# Altium footprint library inductors.PcbLib: 86 footprints (part 6 of 6)
Each footprint in its own frame and in the unit in brackets; x right, y up, seen from the top. Pads: shape width x height; smd on the part's side, far side on the other; paste and mask are expansions set on the pad; w line width, h text height; cw(c..) or ccw(c..) is an arc to the next point about the centre after c.
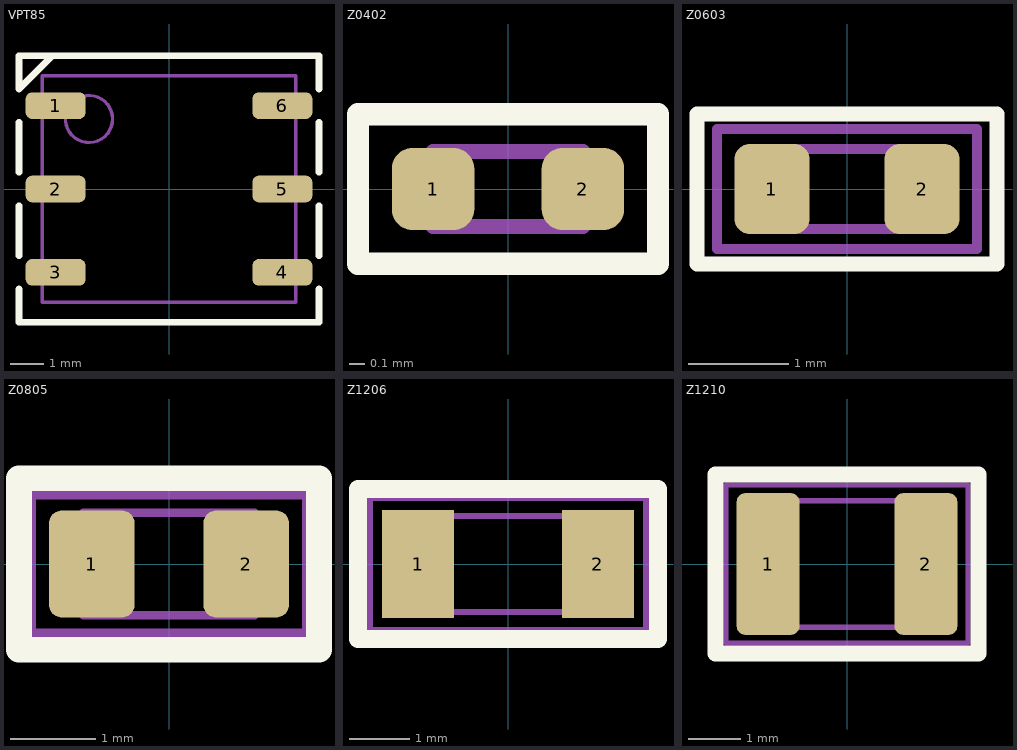
[diagram p5: the footprints below, top view; thin cyan lines are the x and y axes]

## VPT85 [mm]
height 3.7
pads (6):
  rrect50% 1.8x0.8 smd: 1(-3.4,2.5) 2(-3.4,0) 3(-3.4,-2.5) 4(3.4,-2.5) 5(3.4,0) 6(3.4,2.5)
Top Overlay:
  lines w0.2: -4.5,-3 -4.5,-4 4.5,-4 4.5,-3 ; -4.5,-2 -4.5,-0.5 ; -4.5,0.5 -4.5,2 ; -3.5,4 -4.5,3 -4.5,4 4.5,4 4.5,3 ; 4.5,-2 4.5,-0.5 ; 4.5,0.5 4.5,2
Mechanical 1:
  circle w0.1: c-2.4,2.1 r0.707
  lines w0.1: -3.8,-3.4 -3.8,3.4 3.8,3.4 3.8,-3.4 -3.8,-3.4
3D body: height 3.7, standoff 0.6, extent -3.8,-3.4 3.8,3.4

## Z0402 [mm]
height 0.5
pads (2):
  rrect50% 0.55x0.55 smd: 1(-0.5,0) 2(0.5,0)
Top Overlay:
  lines w0.15: -1,-0.5 1,-0.5 1,0.5 -1,0.5 -1,-0.5
Mechanical 1:
  lines w0.1: -0.3,-0.25 -0.3,0.25 ; 0.3,-0.25 0.3,0.25 ; -0.5,-0.25 -0.5,0.25 0.5,0.25 0.5,-0.25 -0.5,-0.25
Mechanical 5:
  lines w0.1: -1,-0.5 -1,0.5 1,0.5 1,-0.5 -1,-0.5
  text ".Designator" at -0.8,-0.3 h0.6
Mechanical 6:
  lines w0.1: -1,-0.5 1,-0.5 1,0.5 -1,0.5 -1,-0.5
  text ".Comment" at -0.8,-0.3 h0.6
3D body: height 0.48, standoff 0.03, extent -0.475,-0.225 0.475,0.225
3D body: height 0.5, standoff 0, extent 0.3,-0.25 0.5,0.25
3D body: height 0.5, standoff 0, extent -0.5,-0.25 -0.3,0.25

## Z0603 [mm]
height 0.8
pads (2):
  rrect40% 0.75x0.9 smd: 1(-0.75,0) 2(0.75,0)
Top Overlay:
  lines w0.15: -1.5,-0.75 1.5,-0.75 1.5,0.75 -1.5,0.75 -1.5,-0.75
Mechanical 1:
  lines w0.1: -0.5,-0.4 -0.5,0.4 ; 0.5,-0.4 0.5,0.4 ; -0.8,-0.4 0.8,-0.4 0.8,0.4 -0.8,0.4 -0.8,-0.4
Mechanical 5:
  lines w0.1: -1.3,-0.6 -1.3,0.6 1.3,0.6 1.3,-0.6 -1.3,-0.6
  text ".Designator" at -1.1,-0.4 h0.8
Mechanical 6:
  lines w0.1: -1.3,-0.6 1.3,-0.6 1.3,0.6 -1.3,0.6 -1.3,-0.6
  text ".Comment" at -1.1,-0.4 h0.8
3D body: height 0.8, standoff 0, extent 0.5,-0.4 0.8,0.4
3D body: height 0.77, standoff 0.03, extent -0.65,-0.375 0.65,0.375
3D body: height 0.8, standoff 0, extent -0.8,-0.4 -0.5,0.4

## Z0805 [mm]
height 1.2
pads (2):
  rrect30% 1x1.25 smd: 1(-0.9,0) 2(0.9,0)
Top Overlay:
  lines w0.3: -1.75,-1 1.75,-1 1.75,1 -1.75,1 -1.75,-1
Mechanical 1:
  lines w0.1: -0.5,-0.6 -0.5,0.6 ; 0.5,-0.6 0.5,0.6 ; -1,-0.6 1,-0.6 1,0.6 -1,0.6 -1,-0.6
Mechanical 5:
  lines w0.1: -1.6,-0.8 1.6,-0.8 1.6,0.8 -1.6,0.8 -1.6,-0.8
  text ".Designator" at -1.3,-0.5 h1
Mechanical 6:
  lines w0.1: -1.6,-0.8 -1.6,0.8 1.6,0.8 1.6,-0.8 -1.6,-0.8
  text ".Comment" at -1.3,-0.5 h1
3D body: height 1.2, standoff 0, extent 0.5,-0.6 1,0.6
3D body: height 1.2, standoff 0, extent -1,-0.6 -0.5,0.6
3D body: height 1.17, standoff 0.03, extent -0.65,-0.575 0.65,0.575

## Z1206 [mm]
height 1.6
pads (2):
  rect 1.2x1.8 smd: 1(-1.5,0) 2(1.5,0)
Top Overlay:
  lines w0.3: -2.5,-1.25 -2.5,1.25 2.5,1.25 2.5,-1.25 -2.5,-1.25
Mechanical 1:
  lines w0.1: -1.1,-0.8 -1.1,0.8 ; 1.1,-0.8 1.1,0.8 ; -1.6,-0.8 1.6,-0.8 1.6,0.8 -1.6,0.8 -1.6,-0.8
Mechanical 5:
  lines w0.1: -2.3,-1.1 2.3,-1.1 2.3,1.1 -2.3,1.1 -2.3,-1.1
  text ".Designator" at -2,-0.8 h1.5
Mechanical 6:
  lines w0.1: -2.3,-1.1 -2.3,1.1 2.3,1.1 2.3,-1.1 -2.3,-1.1
  text ".Comment" at -2,-0.8 h1.5
3D body: height 1.58, standoff 0.03, extent -1.225,-0.775 1.225,0.775
3D body: height 1.6, standoff 0, extent -1.6,-0.8 -1.1,0.8
3D body: height 1.6, standoff 0, extent 1.1,-0.8 1.6,0.8

## Z1210 [mm]
height 2.5
pads (2):
  rrect30% 1.2x2.7 smd: 1(-1.5,0) 2(1.5,0)
Top Overlay:
  lines w0.3: -2.5,-1.7 2.5,-1.7 2.5,1.7 -2.5,1.7 -2.5,-1.7
Mechanical 1:
  lines w0.1: -1.1,-1.2 -1.1,1.2 ; 1.1,-1.2 1.1,1.2 ; -1.6,-1.2 -1.6,1.2 1.6,1.2 1.6,-1.2 -1.6,-1.2
Mechanical 5:
  lines w0.1: -2.3,-1.5 -2.3,1.5 2.3,1.5 2.3,-1.5 -2.3,-1.5
  text ".Designator" at -2,-0.8 h1.5
Mechanical 6:
  lines w0.1: -2.3,-1.5 2.3,-1.5 2.3,1.5 -2.3,1.5 -2.3,-1.5
  text ".Comment" at -2,-0.8 h1.5
3D body: height 2.5, standoff 0, extent 1.1,-1.25 1.6,1.25
3D body: height 2.5, standoff 0, extent -1.6,-1.25 -1.1,1.25
3D body: height 2.47, standoff 0.03, extent -1.225,-1.225 1.225,1.225